# Altium schematic symbol library MOSFET_N_SOT23A_3.SchLib: 1 symbol
Pins are listed as number, name and electrical type; pins without a type are passive.

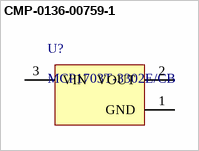
[diagram p0: symbol CMP-0136-00759-1]

## CMP-0136-00759-1
designator U?, comment MCP1703T-3302E/CB
250 mA, 16V, Low Quiescent Current LDO Regulator, 3-Pin SOT-23A, Extended Temperature, Tape and Reel; PackageDescription: 3-Lead Plastic Small Outline Transistor (CB) [SOT-23A]; PackageVersion: revBB, Aug-2009; PackageReference: SOT-23A-CB3; DatasheetVersion: revD, Sep-2009
footprint SOT-23A-CB3_N (SOT346, 3-Leads, Body 2.9x1.5mm, Pitch 0.95mm, Lead Span 2.6mm, IPC Medium Density)
footprint SOT-23A-CB3_L (SOT346, 3-Leads, Body 2.9x1.5mm, Pitch 0.95mm, Lead Span 2.6mm, IPC High Density)
footprint SOT-23A-CB3_M (SOT346, 3-Leads, Body 2.9x1.5mm, Pitch 0.95mm, Lead Span 2.6mm, IPC Low Density)
pins: 1 GND (power), 2 VOUT (power), 3 VIN (power)